# Altium schematic symbol library RS1K-13-F.SchLib: 1 symbol
Pins are listed as number, name and electrical type; pins without a type are passive.

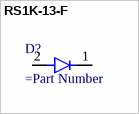
[diagram p0: symbol RS1K-13-F]

## RS1K-13-F
designator D?
=Description
pins: 1, 2